# EAGLE library part EFM32GG11B1*M64 (library EFM32)
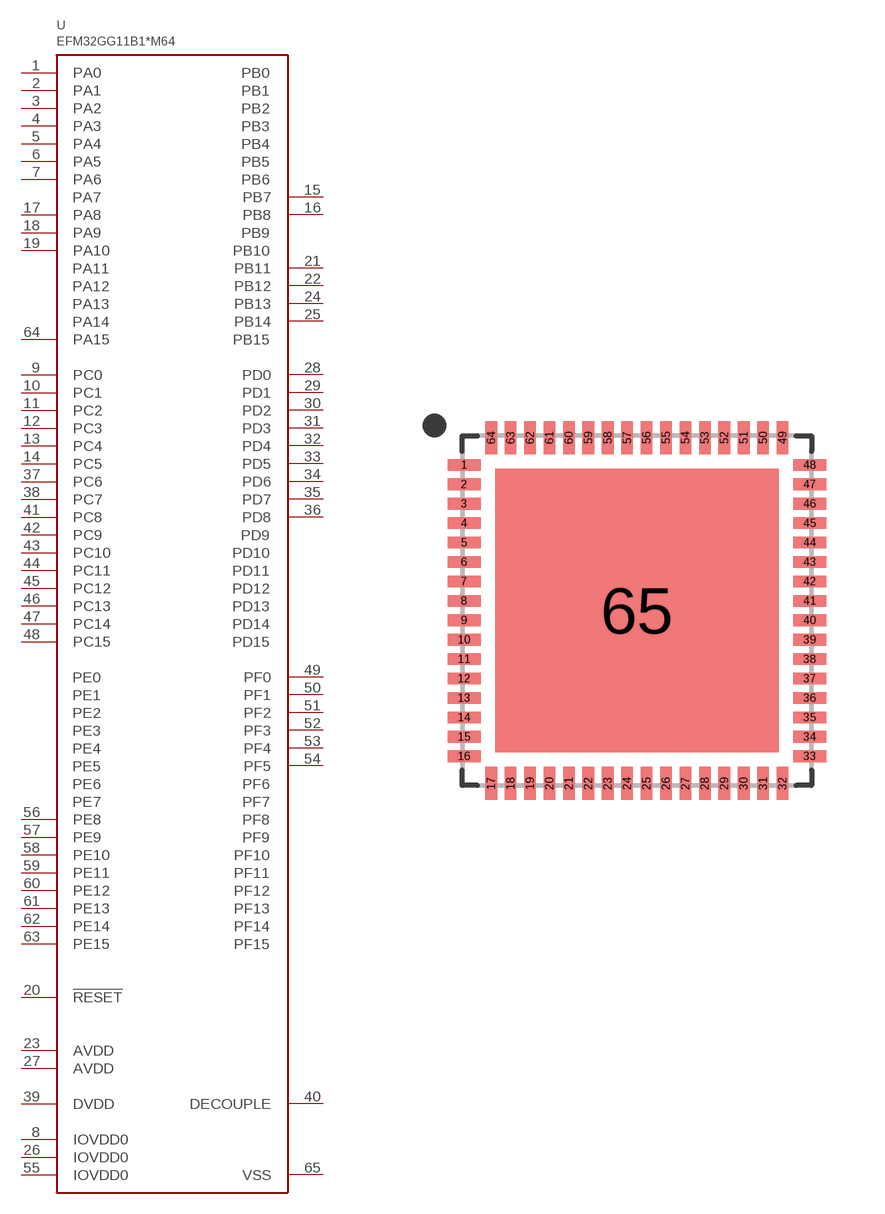
[diagram p24: symbol with the pads of QFN64; footprint QFN64]

Designator prefix U

## EFM32GG11B110F2048GM64, EFM32GG11B110F2048IM64, EFM32GG11B120F2048GM64, EFM32GG11B120F2048IM64  [QFN64]
1  PA0
2  PA1
3  PA2
4  PA3
5  PA4
6  PA5
7  PA6
8  IOVDD0
9  PC0
10  PC1
11  PC2
12  PC3
13  PC4
14  PC5
15  PB7
16  PB8
17  PA8
18  PA9
19  PA10
20  !RESET
21  PB11
22  PB12
23  AVDD
24  PB13
25  PB14
26  IOVDD0
27  AVDD
28  PD0
29  PD1
30  PD2
31  PD3
32  PD4
33  PD5
34  PD6
35  PD7
36  PD8
37  PC6
38  PC7
39  DVDD
40  DECOUPLE
41  PC8
42  PC9
43  PC10
44  PC11
45  PC12
46  PC13
47  PC14
48  PC15
49  PF0
50  PF1
51  PF2
52  PF3
53  PF4
54  PF5
55  IOVDD0
56  PE8
57  PE9
58  PE10
59  PE11
60  PE12
61  PE13
62  PE14
63  PE15
64  PA15
65  VSS

## Footprint QFN64 (pad centres in mm)
smd 0.85 x 0.3: 1 -4.45,3.75; 2 -4.45,3.25; 3 -4.45,2.75; 4 -4.45,2.25; 5 -4.45,1.75; 6 -4.45,1.25; 7 -4.45,0.75; 8 -4.45,0.25; 9 -4.45,-0.25; 10 -4.45,-0.75; 11 -4.45,-1.25; 12 -4.45,-1.75; 13 -4.45,-2.25; 14 -4.45,-2.75; 15 -4.45,-3.25; 16 -4.45,-3.75; 33 4.45,-3.75; 34 4.45,-3.25; 35 4.45,-2.75; 36 4.45,-2.25; 37 4.45,-1.75; 38 4.45,-1.25; 39 4.45,-0.75; 40 4.45,-0.25; 41 4.45,0.25; 42 4.45,0.75; 43 4.45,1.25; 44 4.45,1.75; 45 4.45,2.25; 46 4.45,2.75; 47 4.45,3.25; 48 4.45,3.75
smd 0.3 x 0.85: 17 -3.75,-4.45; 18 -3.25,-4.45; 19 -2.75,-4.45; 20 -2.25,-4.45; 21 -1.75,-4.45; 22 -1.25,-4.45; 23 -0.75,-4.45; 24 -0.25,-4.45; 25 0.25,-4.45; 26 0.75,-4.45; 27 1.25,-4.45; 28 1.75,-4.45; 29 2.25,-4.45; 30 2.75,-4.45; 31 3.25,-4.45; 32 3.75,-4.45; 49 3.75,4.45; 50 3.25,4.45; 51 2.75,4.45; 52 2.25,4.45; 53 1.75,4.45; 54 1.25,4.45; 55 0.75,4.45; 56 0.25,4.45; 57 -0.25,4.45; 58 -0.75,4.45; 59 -1.25,4.45; 60 -1.75,4.45; 61 -2.25,4.45; 62 -2.75,4.45; 63 -3.25,4.45; 64 -3.75,4.45
smd 7.3 x 7.3: 65 0,0